# EAGLE library part 5138 (library con-sd-card)
micro SD Card Connector
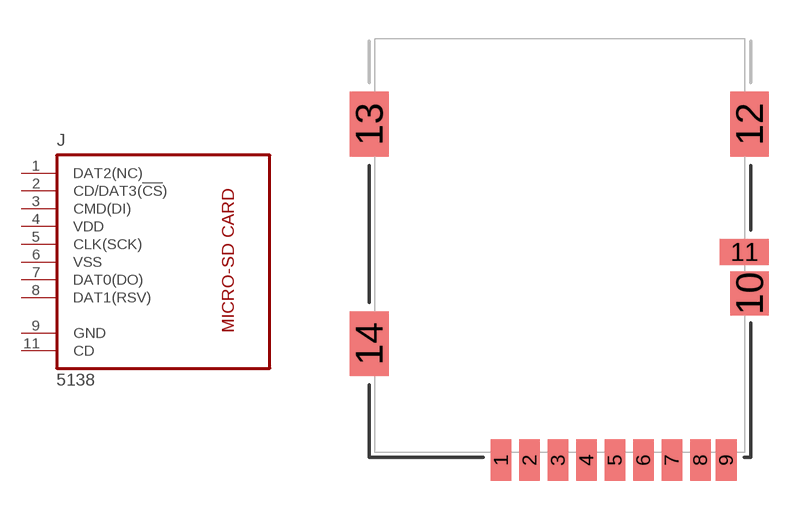
[diagram p3: symbol with the pads of 5138; footprint 5138]

Designator prefix J

## 5138  [5138]
1  DAT2(NC)
2  CD/DAT3(!CS!)
3  CMD(DI)
4  VDD
5  CLK(SCK)
6  VSS
7  DAT0(DO)
8  DAT1(RSV)
9  GND
11  CD

## Footprint 5138 (pad centres in mm)
micro SD Card Connector
smd 0.8 x 1.6: 1 -2.25,-0.3; 2 -1.15,-0.3; 3 -0.05,-0.3; 4 1.05,-0.3; 5 2.15,-0.3; 6 3.25,-0.3; 7 4.35,-0.3; 8 5.45,-0.3; 9 6.45,-0.3
smd 1.5 x 1.7: 10 7.35,6.15
smd 1.9 x 1: 11 7.15,7.75
smd 1.5 x 2.5: 12 7.35,12.7; 13 -7.35,12.7; 14 -7.35,4.2